# Altium footprint library maxi.PcbLib: 1 footprints
Each footprint in its own frame and in the unit in brackets; x right, y up, seen from the top. Pads: shape width x height; smd on the part's side, far side on the other; paste and mask are expansions set on the pad; w line width, h text height; cw(c..) or ccw(c..) is an arc to the next point about the centre after c.
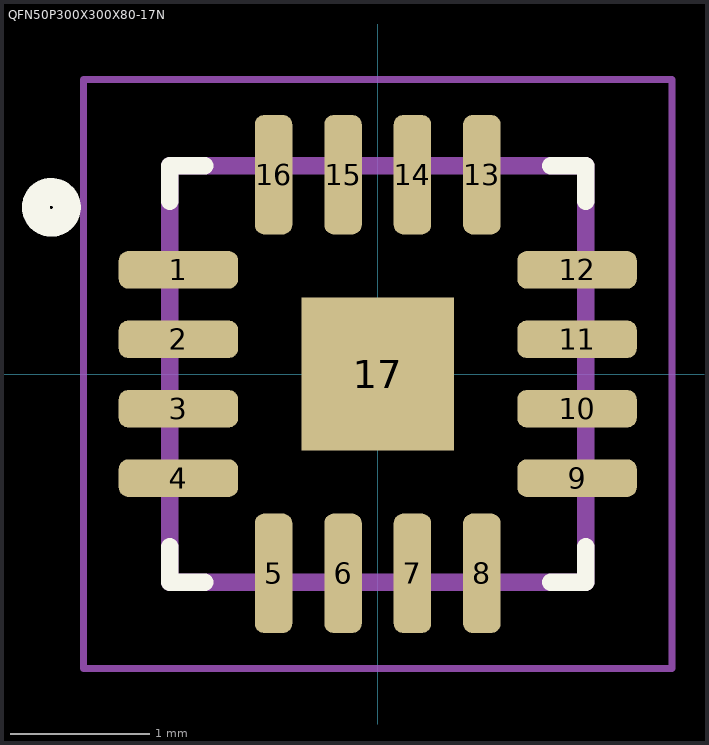
[diagram p0: the footprint, top view; thin cyan lines are the x and y axes]

## QFN50P300X300X80-17N [mm]
pads (17):
  rrect50% 0.86x0.27 smd: 1(-1.435,0.75) 2(-1.435,0.25) 3(-1.435,-0.25) 4(-1.435,-0.75) 9(1.435,-0.75) 10(1.435,-0.25) 11(1.435,0.25) 12(1.435,0.75)
  rrect50% 0.27x0.86 smd: 5(-0.75,-1.435) 6(-0.25,-1.435) 7(0.25,-1.435) 8(0.75,-1.435) 13(0.75,1.435) 14(0.25,1.435) 15(-0.25,1.435) 16(-0.75,1.435)
  rect 1.1x1.1 smd paste-2: 17(0,0)
Top Overlay:
  circle w0.2: c-2.35,1.2 r0.112
  lines w0.127: -1.499,-1.245 -1.499,-1.499 -1.245,-1.499 ; -1.499,1.245 -1.499,1.499 -1.245,1.499 ; 1.245,-1.499 1.499,-1.499 1.499,-1.245 ; 1.245,1.499 1.499,1.499 1.499,1.245
Top Paste:
  region: 0.389,-0.389 -0.389,-0.389 -0.389,0.389 0.389,0.389
Mechanical 13:
  lines w0: -0.889,-1.549 -0.889,-1.499 -0.61,-1.499 ; -1.549,-0.889 -1.549,-0.61 -1.499,-0.61 -1.499,-0.889 -1.549,-0.889 ; -1.549,-0.406 -1.549,-0.102 -1.499,-0.102 -1.499,-0.406 -1.549,-0.406 ; -1.549,0.102 -1.549,0.406 -1.499,0.406 -1.499,0.102 -1.549,0.102 ; -1.549,0.61 -1.549,0.889 -1.499,0.889 -1.499,0.61 -1.549,0.61 ; -0.889,1.499 -0.61,1.499 -0.61,1.549 -0.889,1.549 -0.889,1.499 ; -0.406,-1.549 -0.406,-1.499 -0.102,-1.499 -0.102,-1.549 -0.406,-1.549 ; -0.406,1.499 -0.102,1.499 -0.102,1.549 -0.406,1.549 -0.406,1.499 ; 0.102,-1.549 0.102,-1.499 0.406,-1.499 0.406,-1.549 0.102,-1.549 ; 0.102,1.499 0.406,1.499 0.406,1.549 0.102,1.549 0.102,1.499 ; 0.61,-1.549 0.61,-1.499 0.889,-1.499 0.889,-1.549 0.61,-1.549 ; 0.61,1.499 0.889,1.499 0.889,1.549 0.61,1.549 0.61,1.499 ; 1.499,-0.889 1.499,-0.61 1.549,-0.61 1.549,-0.889 1.499,-0.889 ; 1.499,-0.406 1.499,-0.102 1.549,-0.102 1.549,-0.406 1.499,-0.406 ; 1.499,0.102 1.499,0.406 1.549,0.406 1.549,0.102 1.499,0.102 ; 1.499,0.61 1.499,0.889 1.549,0.889 1.549,0.61 1.499,0.61
  lines w0.127: -1.499,-1.499 1.499,-1.499 1.499,1.499 -1.499,1.499 -1.499,-1.499
Mechanical 15:
  lines w0.05: -2.12,-2.12 2.12,-2.12 2.12,2.12 -2.12,2.12 -2.12,-2.12
3D body "IC_Maxim_Electronics_MAX98357AETE+T_eec.STEP": height 0.75, standoff 0, extent -1.5,-1.5 1.5,1.5